# EAGLE library part OPA2320SAIDGST (library OPA2320SAIDGST)
TEXAS INSTRUMENTS - OPA2320SAIDGST - OP AMP, 20MHZ, 10V/US, 40000UV, VSSOP-10 Source: Datasheet <http://www.ti.com/general/docs/lit/getliterature.tsp?genericPartNumber=OPA2320&fileType=pdf>
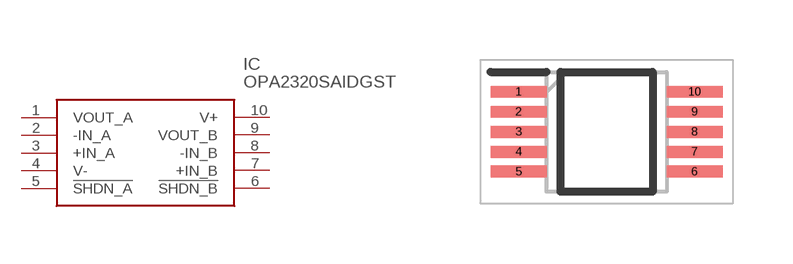
[diagram p0: symbol with the pads of SOP50P490X110-10N; footprint SOP50P490X110-10N]

Designator prefix IC

## OPA2320SAIDGST (Description: TEXAS INSTRUMENTS - OPA2320SAIDGST - OP AMP, 20MHZ, 10V/US, 40000UV, VSSOP-10; Height: 1.1mm; Manufacturer_Name: Texas Instruments; Manufacturer_Part_Number: OPA2320SAIDGST; Mouser_Part_Number: 595-OPA2320SAIDGST; Mouser_Price-Stock: https://www.mouser.com/Search/Refine.aspx?Keyword=595-OPA2320SAIDGST)  [SOP50P490X110-10N]
1  VOUT_A
2  -IN_A
3  +IN_A
4  V-
5  !SHDN_A
6  !SHDN_B
7  +IN_B
8  -IN_B
9  VOUT_B
10  V+

## Footprint SOP50P490X110-10N (pad centres in mm)
DGS (S-PDSO-G10)
smd 1.4 x 0.3: 1 -2.2,1; 2 -2.2,0.5; 3 -2.2,0; 4 -2.2,-0.5; 5 -2.2,-1; 6 2.2,-1; 7 2.2,-0.5; 8 2.2,0; 9 2.2,0.5; 10 2.2,1